# Altium schematic symbol library Fiducial.SchLib: 1 symbol
Pins are listed as number, name and electrical type; pins without a type are passive.

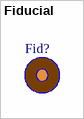
[diagram p0: symbol Fiducial]

## Fiducial
designator Fid?  (value not drawn)  (mechanical)
Mechanical, Fiducial; Component Type: Fiducial; Component Category: Mechanical
footprint Fiducial - 2mm, 5mm
footprint Fiducial, Panel - 2mm, 5mm